# Altium integrated library InterfaceBoard.IntLib: 4 symbols
Pins are listed as number, name and electrical type; pins without a type are passive.

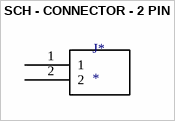
[diagram p0: symbol SCH - CONNECTOR - 2 PIN]

## SCH - CONNECTOR - 2 PIN
designator J*
pins: 1, 2


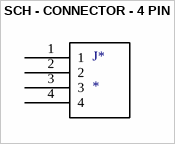
[diagram p1: symbol SCH - CONNECTOR - 4 PIN]

## SCH - CONNECTOR - 4 PIN
designator J*
pins: 1, 2, 3, 4


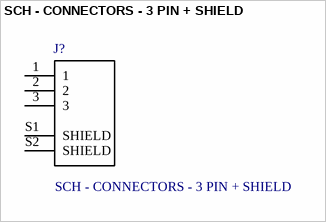
[diagram p2: symbol SCH - CONNECTORS - 3 PIN + SHIELD]

## SCH - CONNECTORS - 3 PIN + SHIELD
designator J?
Connector Header Surface Mount, Right Angle 4 position 0.039 _1.00mm_; MF: Molex; MP: 5037630491; SnapEDA_Link: https://www.snapeda.com/parts/5037630491/Molex/view-part/3215405/?ref=snap; Package: None; Price: None; Availability: Unavailable; Value: *
footprint PCB - CONNECTOR - MOLEX - PICO-LOCK 5037630391
pins: 1, 2, 3, S1 SHIELD, S2 SHIELD


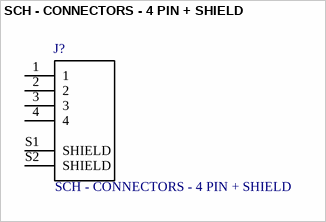
[diagram p3: symbol SCH - CONNECTORS - 4 PIN + SHIELD]

## SCH - CONNECTORS - 4 PIN + SHIELD
designator J?
Connector Header Surface Mount, Right Angle 4 position 0.039 _1.00mm_; MF: Molex; MP: 5037630491; SnapEDA_Link: https://www.snapeda.com/parts/5037630491/Molex/view-part/3215405/?ref=snap; Package: None; Price: None; Availability: Unavailable; Value: *
footprint PCB - CONNECTOR - MOLEX - PICO-LOCK 5037630491
pins: 1, 2, 3, 4, S1 SHIELD, S2 SHIELD